# EAGLE library part CS4299-JQZ (library Cirrus_Logic_By_element14_Batch_1)
CrystalClear® SoundFusion Audio Codec ?97
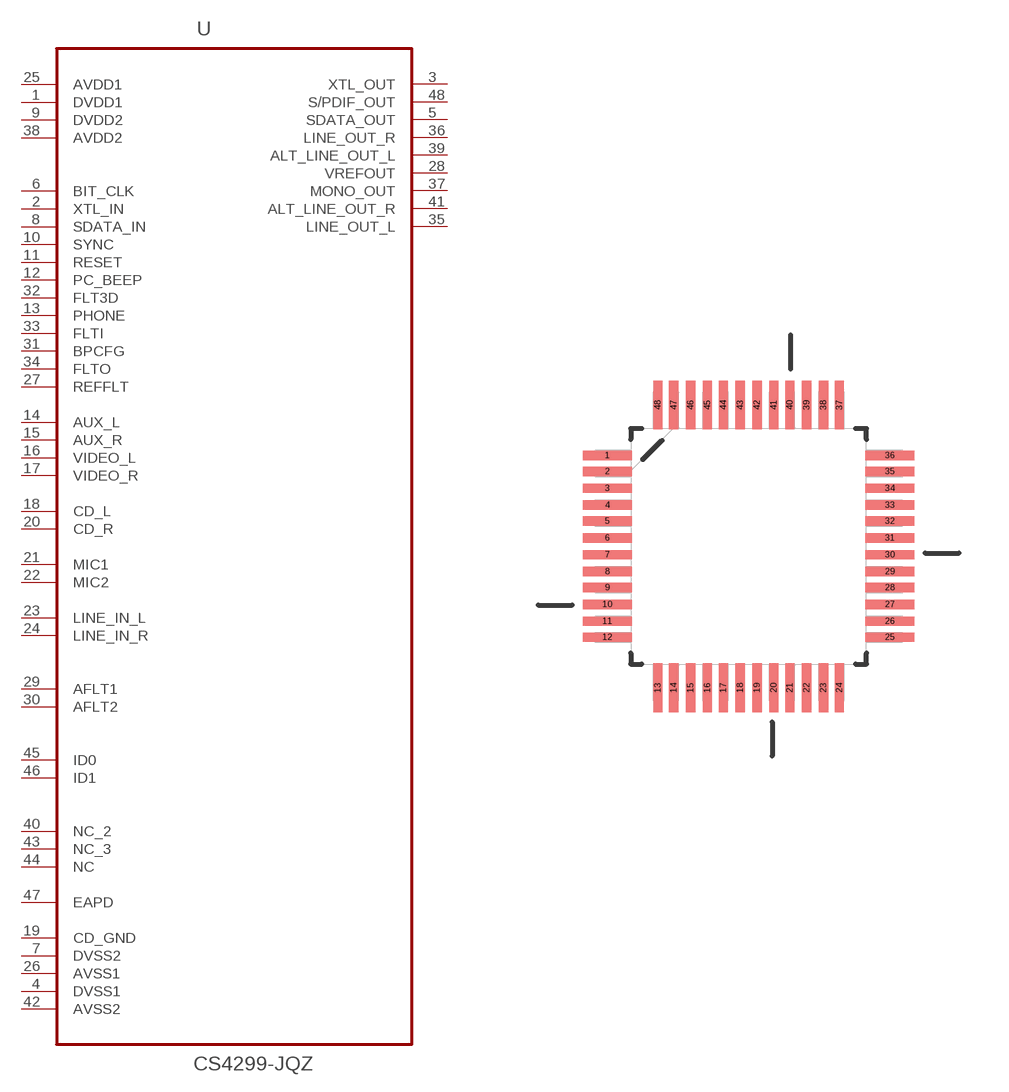
[diagram p2: symbol with the pads of QFP50P900X900X160-48N; footprint QFP50P900X900X160-48N]

Designator prefix U

## CS4299-JQZ (DESCRIPTION: CrystalClear® SoundFusion Audio Codec ?97; MPN: CS4299-JQZ; OC_FARNELL: 1859800; OC_NEWARK: 43K6753; PACKAGE: TQFP-48; SUPPLIER: CIRRUS LOGIC)  [QFP50P900X900X160-48N]
1  DVDD1  pwr
2  XTL_IN  in
3  XTL_OUT  out
4  DVSS1  pas
5  SDATA_OUT  out
6  BIT_CLK  in
7  DVSS2  pas
8  SDATA_IN  in
9  DVDD2  pwr
10  SYNC  in
11  RESET  in
12  PC_BEEP  in
13  PHONE  in
14  AUX_L  in
15  AUX_R  in
16  VIDEO_L  in
17  VIDEO_R  in
18  CD_L  in
19  CD_GND  pas
20  CD_R  in
21  MIC1  in
22  MIC2  in
23  LINE_IN_L  in
24  LINE_IN_R  in
25  AVDD1  pwr
26  AVSS1  pas
27  REFFLT  in
28  VREFOUT  out
29  AFLT1  in
30  AFLT2  in
31  BPCFG  in
32  FLT3D  in
33  FLTI  in
34  FLTO  in
35  LINE_OUT_L  out
36  LINE_OUT_R  out
37  MONO_OUT  out
38  AVDD2  pwr
39  ALT_LINE_OUT_L  out
40  NC_2  nc
41  ALT_LINE_OUT_R  out
42  AVSS2  pas
43  NC_3  nc
44  NC  nc
45  ID0  in
46  ID1  in
47  EAPD  in
48  S/PDIF_OUT  out

## Footprint QFP50P900X900X160-48N (pad centres in mm)
smd 1.473 x 0.279: 1 -4.267,2.743; 2 -4.267,2.261; 3 -4.267,1.753; 4 -4.267,1.245; 5 -4.267,0.762; 6 -4.267,0.254; 7 -4.267,-0.254; 8 -4.267,-0.762; 9 -4.267,-1.245; 10 -4.267,-1.753; 11 -4.267,-2.261; 12 -4.267,-2.743; 25 4.267,-2.743; 26 4.267,-2.261; 27 4.267,-1.753; 28 4.267,-1.245; 29 4.267,-0.762; 30 4.267,-0.254; 31 4.267,0.254; 32 4.267,0.762; 33 4.267,1.245; 34 4.267,1.753; 35 4.267,2.261; 36 4.267,2.743
smd 0.279 x 1.473: 13 -2.743,-4.267; 14 -2.261,-4.267; 15 -1.753,-4.267; 16 -1.245,-4.267; 17 -0.762,-4.267; 18 -0.254,-4.267; 19 0.254,-4.267; 20 0.762,-4.267; 21 1.245,-4.267; 22 1.753,-4.267; 23 2.261,-4.267; 24 2.743,-4.267; 37 2.743,4.267; 38 2.261,4.267; 39 1.753,4.267; 40 1.245,4.267; 41 0.762,4.267; 42 0.254,4.267; 43 -0.254,4.267; 44 -0.762,4.267; 45 -1.245,4.267; 46 -1.753,4.267; 47 -2.261,4.267; 48 -2.743,4.267